# Altium footprint library SOP254P1040X485-8N.PcbLib: 1 footprints
Each footprint in its own frame and in the unit in brackets; x right, y up, seen from the top. Pads: shape width x height; smd on the part's side, far side on the other; paste and mask are expansions set on the pad; w line width, h text height; cw(c..) or ccw(c..) is an arc to the next point about the centre after c.
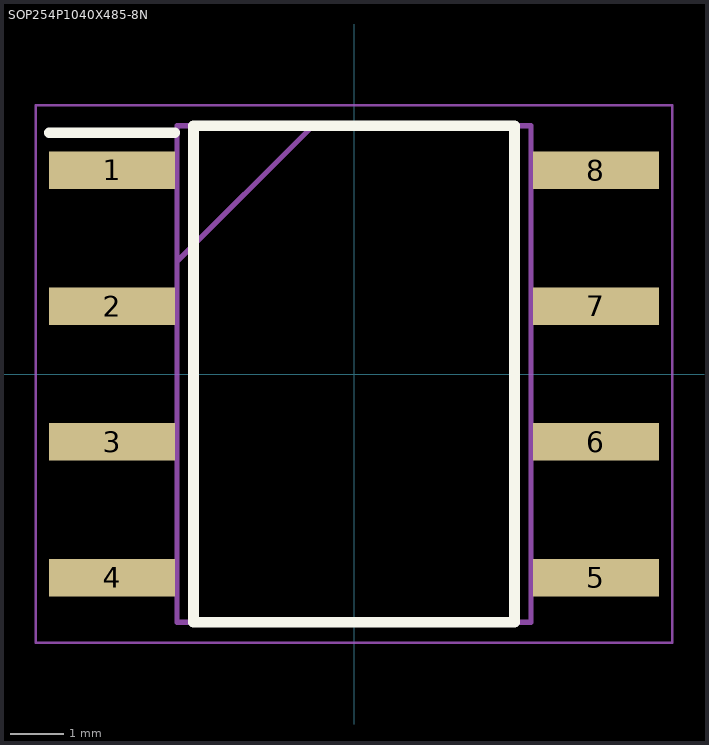
[diagram p0: the footprint, top view; thin cyan lines are the x and y axes]

## SOP254P1040X485-8N [mm]
pads (8):
  rect 2.35x0.7 smd: 1(-4.525,3.81) 2(-4.525,1.27) 3(-4.525,-1.27) 4(-4.525,-3.81) 5(4.525,-3.81) 6(4.525,-1.27) 7(4.525,1.27) 8(4.525,3.81)
Top Overlay:
  lines w0.2: -5.7,4.51 -3.35,4.51 ; -3,-4.642 3,-4.642 3,4.642 -3,4.642 -3,-4.642
Mechanical 15:
  lines w0.1: -3.31,2.102 -0.77,4.642 ; -3.31,-4.642 3.31,-4.642 3.31,4.642 -3.31,4.642 -3.31,-4.642
Mechanical 20:
  lines w0.05: -5.95,-5.025 5.95,-5.025 5.95,5.025 -5.95,5.025 -5.95,-5.025